# EAGLE library part AD8611 (library analog-devices)
Ultrafast 4 ns Single Supply Comparators Source: http://www.analog.com/UploadedFiles/Data_Sheets/703465986AD8611_2_0.pdf Upgrade for LT1394 and LT1016 Designs
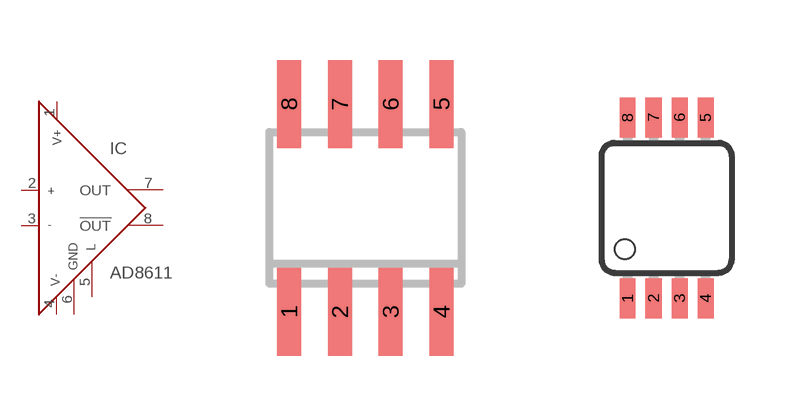
[diagram p50: symbol with the pads of SO8; footprints SO8, MSOP08]

Designator prefix IC

## AD8611R (MPN: AD8611ARMZ-R2; OC_FARNELL: 1319472; OC_NEWARK: 19M8930)  [SO8]
1  V+  pwr
2  IN+  in
3  IN-  in
4  V-  pwr
5  L  in
6  GND  pwr
7  OUT  out
8  !OUT  out

## AD8611RM (MPN: AD8611ARMZ-R2; OC_FARNELL: 1464995; OC_NEWARK: 19M8930)  [MSOP08]
Pads as for SO8

## Footprint SO8 (pad centres in mm)
SMALL OUTLINE INTEGRATED CIRCUIT SOP-8L Source: http://www.diodes.com/datasheets/ds31262.pdf
smd 0.6 x 2.2: 1 -1.905,-2.6; 2 -0.635,-2.6; 3 0.635,-2.6; 4 1.905,-2.6; 5 1.905,2.6; 6 0.635,2.6; 7 -0.635,2.6; 8 -1.905,2.6

## Footprint MSOP08 (pad centres in mm)
8-Lead micro SO (RM-8) Source: http://www.analog.com/UploadedFiles/Data_Sheets/703465986AD8611_2_0.pdf
smd 0.4 x 1: 1 -0.976,-2.263; 2 -0.326,-2.263; 3 0.324,-2.263; 4 0.974,-2.263; 5 0.974,2.262; 6 0.324,2.262; 7 -0.326,2.262; 8 -0.976,2.262